# EAGLE library part M90E26 (library MyParts)
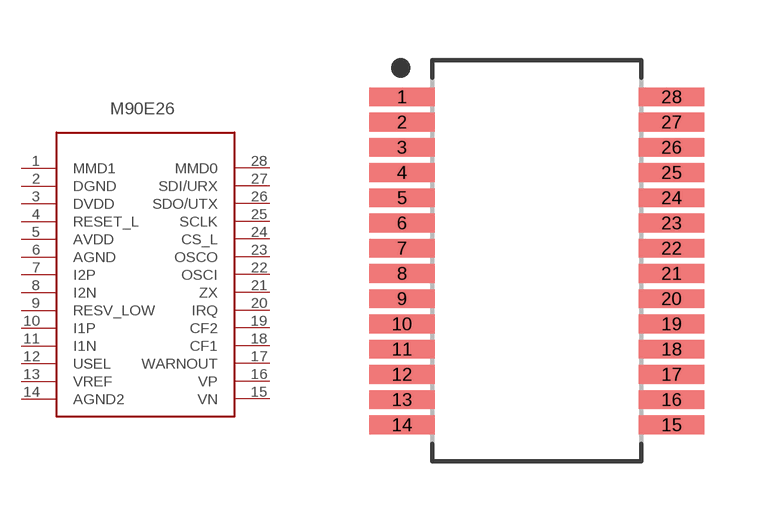
[diagram p3: symbol with the pads of SOP65P777X199-28; footprint SOP65P777X199-28]

Designator prefix -

## M90E26M90E26_SSOP_28  [SOP65P777X199-28]
1  MMD1
2  DGND
3  DVDD
4  RESET_L
5  AVDD
6  AGND
7  I2P
8  I2N
9  RESV_LOW
10  I1P
11  I1N
12  USEL
13  VREF
14  AGND2
15  VN
16  VP
17  WARNOUT
18  CF1
19  CF2
20  IRQ
21  ZX
22  OSCI
23  OSCO
24  CS_L
25  SCLK
26  SDO/UTX
27  SDI/URX
28  MMD0

## Footprint SOP65P777X199-28 (pad centres in mm)
28-SOP, 0.65 mm pitch, 7.78 mm span, 10.20 X 5.29 X 1.99 mm body 28-pin SOP package with 0.65 mm pitch, 7.78 mm span with body size 10.20 X 5.29 X 1.99 mm
smd 1.684 x 0.481: 1 -3.47,4.225; 2 -3.47,3.575; 3 -3.47,2.925; 4 -3.47,2.275; 5 -3.47,1.625; 6 -3.47,0.975; 7 -3.47,0.325; 8 -3.47,-0.325; 9 -3.47,-0.975; 10 -3.47,-1.625; 11 -3.47,-2.275; 12 -3.47,-2.925; 13 -3.47,-3.575; 14 -3.47,-4.225; 15 3.47,-4.225; 16 3.47,-3.575; 17 3.47,-2.925; 18 3.47,-2.275; 19 3.47,-1.625; 20 3.47,-0.975; 21 3.47,-0.325; 22 3.47,0.325; 23 3.47,0.975; 24 3.47,1.625; 25 3.47,2.275; 26 3.47,2.925; 27 3.47,3.575; 28 3.47,4.225